# Altium schematic symbol library ZYF_Common.SchLib: 74 symbols
Pins are listed as number, name and electrical type; pins without a type are passive.

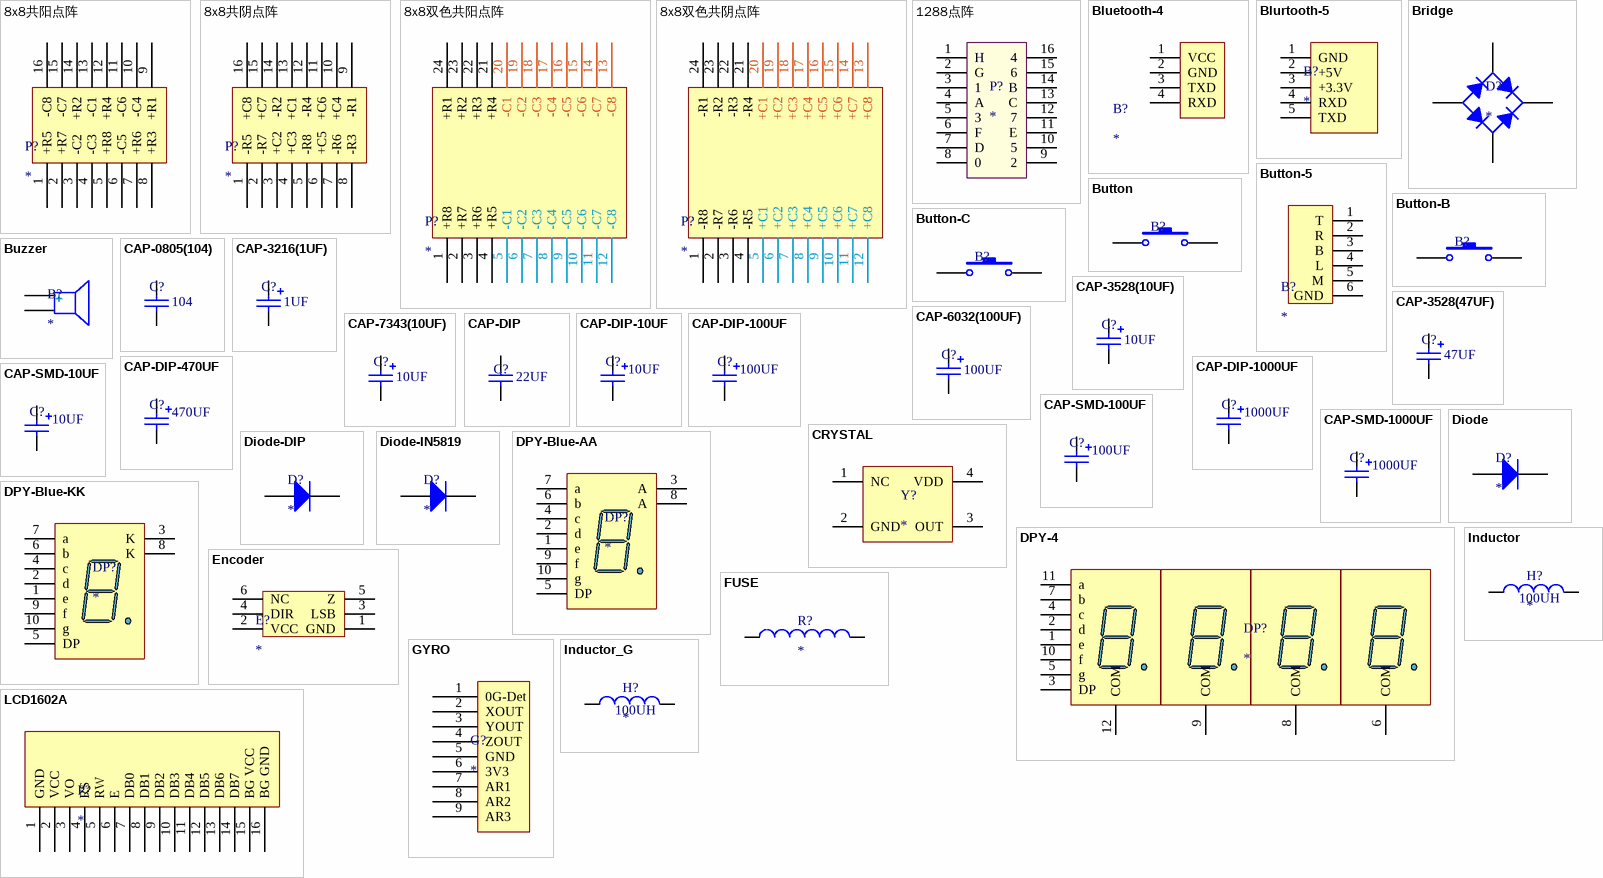
[diagram p0: symbols 8x8共阳点阵 to LCD1602A]

## 8x8共阳点阵
designator P?
footprint 8x8点阵
pins: 1 +R5, 2 +R7, 3 -C2, 4 -C3, 5 +R8, 6 -C5, 7 +R6, 8 +R3, 9 +R1, 10 -C4, 11 -C6, 12 +R4, 13 -C1, 14 +R2, 15 -C7, 16 -C8

## 8x8共阴点阵
designator P?
footprint 8x8点阵
pins: 1 -R5, 2 -R7, 3 +C2, 4 +C3, 5 -R8, 6 +C5, 7 -R6, 8 -R3, 9 -R1, 10 +C4, 11 +C6, 12 -R4, 13 +C1, 14 -R2, 15 +C7, 16 +C8

## 8x8双色共阳点阵
designator P?
footprint 8x8双色点阵
pins: 1 +R8, 2 +R7, 3 +R6, 4 +R5, 5 -C1, 6 -C2, 7 -C3, 8 -C4, 9 -C5, 10 -C6, 11 -C7, 12 -C8, 13 -C8, 14 -C7, 15 -C6, 16 -C5, 17 -C4, 18 -C3, 19 -C2, 20 -C1, 21 +R4, 22 +R3, 23 +R2, 24 +R1

## 8x8双色共阴点阵
designator P?
footprint 8x8双色点阵
pins: 1 -R8, 2 -R7, 3 -R6, 4 -R5, 5 +C1, 6 +C2, 7 +C3, 8 +C4, 9 +C5, 10 +C6, 11 +C7, 12 +C8, 13 +C8, 14 +C7, 15 +C6, 16 +C5, 17 +C4, 18 +C3, 19 +C2, 20 +C1, 21 -R4, 22 -R3, 23 -R2, 24 -R1

## 1288点阵
designator P?
footprint 8x8点阵
pins: 1 H, 2 G, 3 1, 4 A, 5 3, 6 F, 7 D, 8 0, 9 2, 10 5, 11 E, 12 7, 13 C, 14 B, 15 6, 16 4

## Bluetooth-4
designator B?
footprint Bluetooth-4
pins: 1 VCC, 2 GND, 3 TXD, 4 RXD

## Blurtooth-5
designator B?
footprint Bluetooth-5
pins: 1 GND, 2 +5V, 3 +3.3V, 4 RXD, 5 TXD

## Bridge
designator D?
footprint BRIDGE
pins: 1 A, 2 C, 3 K, 4 C

## Button
designator B?  (value not drawn)
footprint Button
pins: 1, 2

## Button-5
designator B?
footprint BUTTON-5
pins: 1 T, 2 R, 3 B, 4 L, 5 M, 6 GND

## Button-B
designator B?  (value not drawn)
footprint Button-B
pins: 1, 2

## Button-C
designator B?  (value not drawn)
footprint Button-C
pins: 1, 2

## Buzzer
designator B?
footprint BUZZER
pins: 1, 2

## CAP-0805(104)
designator C?  (value not drawn)
footprint CAP-0805
pins: 1, 2
text: 104

## CAP-3216(1UF)
designator C?  (value not drawn)
footprint CAP-3216
pins: 1, 2
text: 1UF

## CAP-3528(10UF)
designator C?  (value not drawn)
footprint CAP-3528
pins: 1, 2
text: 10UF

## CAP-3528(47UF)
designator C?  (value not drawn)
footprint CAP-3528
pins: 1, 2
text: 47UF

## CAP-6032(100UF)
designator C?  (value not drawn)
footprint CAP-6032
pins: 1, 2
text: 100UF

## CAP-7343(10UF)
designator C?  (value not drawn)
footprint CAP-7343
pins: 1, 2
text: 10UF

## CAP-DIP
designator C?  (value not drawn)
footprint CAP-DIP
pins: 1, 2
text: 22UF

## CAP-DIP-10UF
designator C?  (value not drawn)
footprint CAP-DIP-5X11
pins: 1, 2
text: 10UF

## CAP-DIP-100UF
designator C?  (value not drawn)
footprint CAP-DIP-6.3X11
pins: 1, 2
text: 100UF

## CAP-DIP-470UF
designator C?  (value not drawn)
footprint CAP-DIP-8X12
pins: 1, 2
text: 470UF

## CAP-DIP-1000UF
designator C?  (value not drawn)
footprint CAP-DIP-10X17
pins: 1, 2
text: 1000UF

## CAP-SMD-10UF
designator C?  (value not drawn)
footprint CAP-SMD-10UF
pins: 1, 2
text: 10UF

## CAP-SMD-100UF
designator C?  (value not drawn)
footprint CAP-SMD-100UF
pins: 1, 2
text: 100UF

## CAP-SMD-1000UF
designator C?  (value not drawn)
footprint CAP-SMD-1000UF
pins: 1, 2
text: 1000UF

## CRYSTAL
designator Y?
footprint CRYSTAL
pins: 1 NC, 2 GND, 3 OUT, 4 VDD

## Diode
designator D?
footprint DIODE
pins: 1 A, 2 K

## Diode-DIP
designator D?
footprint DIODE-DIP
pins: 1 A, 2 K

## Diode-IN5819
designator D?
footprint Diode-IN5819
pins: 1 A, 2 K

## DPY-4
designator DP?
footprint DPY-4
pins: 1 e "Anode", 2 d "Anode", 3 DP "Anode", 4 c "Anode", 5 g "Anode", 6 COM, 7 b "Anode", 8 COM, 9 COM, 10 f "Anode", 11 a "Anode", 12 COM

## DPY-Blue-AA
designator DP?
footprint DPY
pins: 1 e "Cathode", 2 d "Cathode", 3 A "Common Anode", 4 c "Cathode", 5 DP "Cathode", 6 b "Cathode", 7 a "Cathode", 8 A "Common Anode", 9 f "Cathode", 10 g "Cathode"

## DPY-Blue-KK
designator DP?
footprint DPY
pins: 1 e "Anode", 2 d "Anode", 3 K "Common Cathode", 4 c "Anode", 5 DP "Anode", 6 b "Anode", 7 a "Anode", 8 K "Common Cathode", 9 f "Anode", 10 g "Anode"

## Encoder
designator E?
footprint ENCODER
pins: 1 GND, 2 VCC, 3 LSB, 4 DIR, 5 Z, 6 NC

## FUSE
designator R?
footprint FUZE
pins: 1, 2

## GYRO
designator G?
footprint GYRO
pins: 1 0G-Det, 2 XOUT, 3 YOUT, 4 ZOUT, 5 GND, 6 3V3, 7 AR1, 8 AR2, 9 AR3

## Inductor
designator H?
footprint RES-DIP
pins: 1, 2
text: 100UH

## Inductor_G
designator H?
footprint INDUCTOR-G
pins: 1, 2
text: 100UH

## LCD1602A
designator P?
footprint LCD1602A
pins: 1 GND, 2 VCC, 3 VO, 4 RS, 5 RW, 6 E, 7 DB0, 8 DB1, 9 DB2, 10 DB3, 11 DB4, 12 DB5, 13 DB6, 14 DB7, 15 BG VCC, 16 BG GND

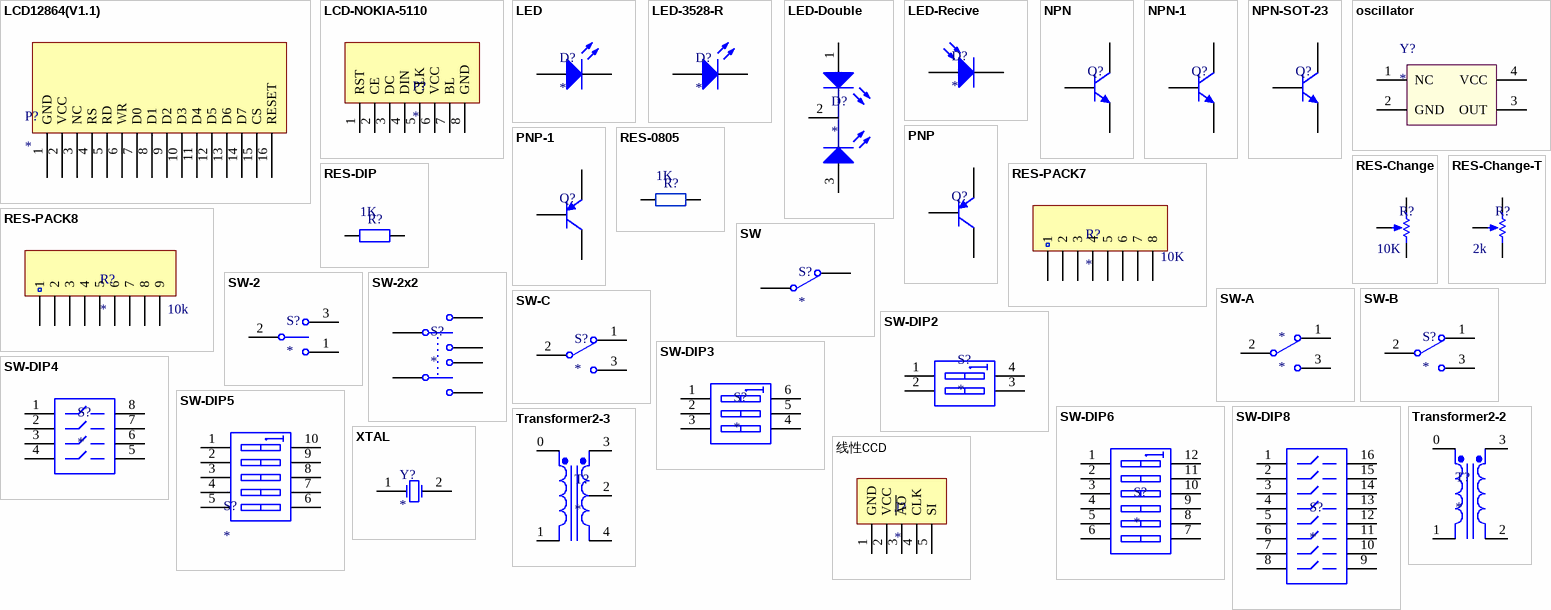
[diagram p1: symbols LCD12864(V1.1) to 线性CCD]

## LCD12864(V1.1)
designator P?
footprint LCD12864(V1.1)
pins: 1 GND, 2 VCC, 3 NC, 4 RS, 5 RD, 6 WR, 7 D0, 8 D1, 9 D2, 10 D3, 11 D4, 12 D5, 13 D6, 14 D7, 15 CS, 16 RESET

## LCD-NOKIA-5110
designator P?
footprint LCD-NOKIA5110
pins: 1 RST, 2 CE, 3 DC, 4 DIN, 5 CLK, 6 VCC, 7 BL, 8 GND

## LED
designator D?
footprint LED
pins: 1 A, 2 K

## LED-3528-R
designator D?
footprint LED-3528-R
pins: 1 A, 2 K

## LED-Double
designator D?
pins: 1 A, 2, 3 A

## LED-Recive
designator D?
footprint LED
pins: 1 A, 2 K

## NPN
designator Q?  (value not drawn)
footprint AUDION
pins: 1 E, 2 B, 3 C

## NPN-1
designator Q?  (value not drawn)
footprint AUDION-1
pins: 1 E, 2 B, 3 C

## NPN-SOT-23
designator Q?  (value not drawn)
footprint SOT-23
pins: 1 B, 2 E, 3 C

## oscillator
designator Y?
footprint OSCILLATOR
pins: 1 NC, 2 GND, 3 OUT, 4 VCC

## PNP
designator Q?  (value not drawn)
footprint AUDION
pins: 1 E, 2 B, 3 C

## PNP-1
designator Q?  (value not drawn)
footprint AUDION-1
pins: 1 E, 2 B, 3 C

## RES-0805
designator R?  (value not drawn)
footprint RES-0805
pins: 1, 2
text: 1K

## RES-Change
designator R?  (value not drawn)
footprint RES-Change
pins: 1 TOP, 2 BOT, 3 TAP
text: 10K

## RES-Change-T
designator R?  (value not drawn)
footprint RES-Change-T
pins: 1 TOP, 2 BOT, 3 TAP
text: 2k

## RES-DIP
designator R?  (value not drawn)
footprint RES-DIP
pins: 1, 2
text: 1K

## RES-PACK7
designator R?
footprint RES-PACK7
pins: 1, 2, 3, 4, 5, 6, 7, 8
text: 10K

## RES-PACK8
designator R?
footprint RES-PACK8
pins: 1, 2, 3, 4, 5, 6, 7, 8, 9
text: 10k

## SW
designator S?
pins: 1, 2

## SW-2
designator S?
footprint SW-2
pins: 1, 2, 3

## SW-2x2
designator S?
footprint SW-2X2
pins: 1, 2, 3, 4, 5, 6

## SW-A
designator *
footprint SW-A
pins: 1, 2, 3

## SW-B
designator S?
footprint SW-B
pins: 1, 2, 3

## SW-C
designator S?
footprint SW-C
pins: 1, 2, 3

## SW-DIP2
designator S?
footprint DIP-4
pins: 1 A1, 2 A2, 3 B2, 4 B1

## SW-DIP3
designator S?
footprint DIP-6
pins: 1 A1, 2 A2, 3 A3, 4 B3, 5 B2, 6 B1

## SW-DIP4
designator S?
footprint DIP-8
pins: 1, 2, 3, 4, 5, 6, 7, 8

## SW-DIP5
designator S?
footprint DIP-10
pins: 1 A1, 2 A2, 3 A3, 4 A4, 5 A5, 6 A6, 7 B6, 8 B5, 9 B4, 10 B3

## SW-DIP6
designator S?
footprint DIP-12
pins: 1 A1, 2 A2, 3 A3, 4 A4, 5 A5, 6 A6, 7 B6, 8 B5, 9 B4, 10 B3, 11 B2, 12 B1

## SW-DIP8
designator S?
footprint DIP-16
pins: 1, 2, 3, 4, 5, 6, 7, 8, 9, 10, 11, 12, 13, 14, 15, 16

## Transformer2-2
designator T?
footprint TRANSFORMER2-2
pins: 0, 1, 2, 3

## Transformer2-3
designator T?
footprint TRANSFORMER2-3
pins: 0, 1, 2, 3, 4

## XTAL
designator Y?
footprint XTAL
pins: 1 OSC1, 2 OSC2

## 线性CCD
designator J?
footprint 线性CCD
pins: 1 GND, 2 VCC, 3 ~{AO}, 4 CLK, 5 SI